# Altium footprint library 1864354.PcbLib: 1 footprints
Each footprint in its own frame and in the unit in brackets; x right, y up, seen from the top. Pads: shape width x height; smd on the part's side, far side on the other; paste and mask are expansions set on the pad; w line width, h text height; cw(c..) or ccw(c..) is an arc to the next point about the centre after c.
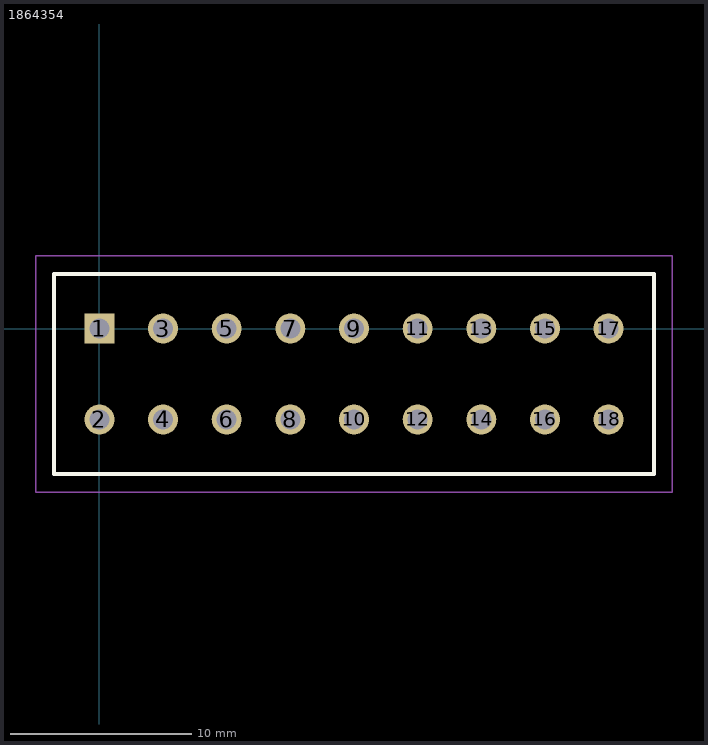
[diagram p0: the footprint, top view; thin cyan lines are the x and y axes]

## 1864354 [mm]
pads (18):
  rect 1.65x1.65 hole 1.1: 1(0,0)
  round 1.65 hole 1.1: 2(0,-5) 3(3.5,0) 4(3.5,-5) 5(7,0) 6(7,-5) 7(10.5,0) 8(10.5,-5) 9(14,0) 10(14,-5) 11(17.5,0) 12(17.5,-5) 13(21,0) 14(21,-5) 15(24.5,0) 16(24.5,-5) 17(28,0) 18(28,-5)
Top Overlay:
  lines w0.2: -2.5,-8 30.5,-8 30.5,3 -2.5,3 -2.5,-8
Mechanical 15:
  lines w0.1: -2.5,-8 30.5,-8 30.5,3 -2.5,3 -2.5,-8
Mechanical 20:
  lines w0.1: -3.5,-9 31.5,-9 31.5,4 -3.5,4 -3.5,-9
3D body "1864354.stp": height 10.9, standoff -2.6, extent -2.54,-8.001 30.46,2.999